# Altium schematic symbol library resistor_pot_trimmer.SchLib: 26 symbols
Pins are listed as number, name and electrical type; pins without a type are passive.

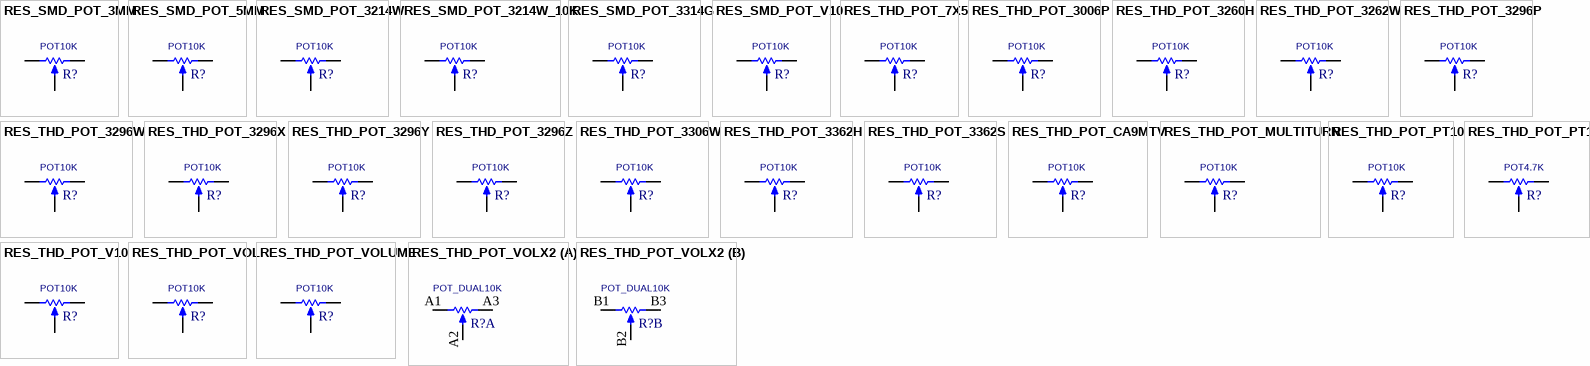
[diagram p0: symbols RES_SMD_POT_3MM to RES_THD_POT_VOLX2]

## RES_SMD_POT_3MM
designator R?, comment POT10K
RESISTOR, SMD, Potentiometer, 3mm; VALUE: POT10K
footprint POTS_3MM (POT SMD, 3.0X3.0mm, Trimming PVG3A PVZ3A)
pins: 1 TOP, 2 TAP, 3 BOT

## RES_SMD_POT_5MM
designator R?, comment POT10K
RESISTOR, SMD, Potentiometer, 5mm; VALUE: POT10K
footprint POTS_5MM (POT SMD, 5.0X5.0mm, Trimming PVG5H)
pins: 1 TOP, 2 TAP, 3 BOT

## RES_SMD_POT_3214W
designator R?, comment POT10K
RESISTOR, SMD, Potentiometer; VALUE: POT10K
footprint POTS_3214W (POT SMD, 4.0X5.0mm, Trimming SM-42/43W 3214W)
pins: 1 TOP, 2 TAP, 3 BOT

## RES_SMD_POT_3214W_10K
designator R?, comment POT10K
RESISTOR, SMD, Potentiometer; MANF: Bourns; MANF_P#: 3214W-1-103G; PRICE: 3$; VALUE: POT10K
footprint POTS_3214W (POT SMD, 4.0X5.0mm, Trimming SM-42/43W 3214W)
pins: 1 TOP, 2 TAP, 3 BOT

## RES_SMD_POT_3314G
designator R?, comment POT10K
RESISTOR, SMD, Potentiometer; VALUE: POT10K
footprint POTS_3314G (POT SMD, 5.0X5.0mm, Trimming, 3314G)
pins: 1 TOP, 2 TAP, 3 BOT

## RES_SMD_POT_V10
designator R?, comment POT10K
RESISTOR, SMD, Potentiometer, 10mm; VALUE: POT10K
footprint POTS_V10MM (POT, TRIM, V-10 10mm SMD)
pins: 1 TOP, 2 TAP, 3 BOT

## RES_THD_POT_7X5
designator R?, comment POT10K
RESISTOR, THD, Potentiometer; VALUE: POT10K
footprint POT_7X5 (POT, TRIM, 7.5X5.0mm, pitch: 5.0mm)
pins: 1 TOP, 2 TAP, 3 BOT

## RES_THD_POT_3006P
designator R?, comment POT10K
RESISTOR, THD, Potentiometer; VALUE: POT10K
footprint POT_3006P (POT, TRIM, 19.0X4.8mm 3006P)
pins: 1 TOP, 2 TAP, 3 BOT

## RES_THD_POT_3260H
designator R?, comment POT10K
RESISTOR, THD, Potentiometer; VALUE: POT10K
footprint POT_3260H (POT, TRIM, 4.3X6.3mm 3260H)
pins: 1 TOP, 2 TAP, 3 BOT

## RES_THD_POT_3262W
designator R?, comment POT10K
RESISTOR, THD, Potentiometer; VALUE: POT10K
footprint POT_3262W (POT, TRIM, 4.3X6.6mm 3262W)
pins: 1 TOP, 2 TAP, 3 BOT

## RES_THD_POT_3296P
designator R?, comment POT10K
RESISTOR, THD, Potentiometer; VALUE: POT10K
footprint POT_3296P (POT, TRIM, 9.5X9.5mm HORIZENTAL 3296P)
pins: 1 TOP, 2 TAP, 3 BOT

## RES_THD_POT_3296W
designator R?, comment POT10K
RESISTOR, THD, Potentiometer; VALUE: POT10K
footprint POT_3296W (POT, TRIM, 10.0X5.0mm, pitch: 2.5mm 3299W 3296W S64W)
pins: 1 TOP, 2 TAP, 3 BOT

## RES_THD_POT_3296X
designator R?, comment POT10K
RESISTOR, THD, Potentiometer; VALUE: POT10K
footprint POT_3296X (POT, TRIM, 10.0X5.0mm, pitch: 2.5mm, MURATA, PV36X 3296X)
pins: 1 TOP, 2 TAP, 3 BOT

## RES_THD_POT_3296Y
designator R?, comment POT10K
RESISTOR, THD, Potentiometer; VALUE: POT10K
footprint POT_3296Y (POT, TRIM, 10.0X5.0mm, pitch: 2.5mm, MURATA, PV36Y 3296Y S64Y)
pins: 1 TOP, 2 TAP, 3 BOT

## RES_THD_POT_3296Z
designator R?, comment POT10K
RESISTOR, THD, Potentiometer; VALUE: POT10K
footprint POT_3296Z (POT, TRIM, 10.0X5.0mm, pitch: 2.5mm, 3296Z)
pins: 1 TOP, 2 TAP, 3 BOT

## RES_THD_POT_3306W
designator R?, comment POT10K
RESISTOR, THD, Potentiometer; VALUE: POT10K
footprint POT_3306W (POT, TRIM, 4.5X6.8mm 3306W)
pins: 1 TOP, 2 TAP, 3 BOT

## RES_THD_POT_3362H
designator R?, comment POT10K
RESISTOR, THD, Potentiometer; VALUE: POT10K
footprint POT_3362H (POT, TRIM, 6.6X6.8mm 3362H, 3362P, 3362R)
pins: 1 TOP, 2 TAP, 3 BOT

## RES_THD_POT_3362S
designator R?, comment POT10K
RESISTOR, THD, Potentiometer; VALUE: POT10K
footprint POT_3362S (POT, TRIM, 4.3X6.6mm 3362S)
pins: 1 TOP, 2 TAP, 3 BOT

## RES_THD_POT_CA9MTV
designator R?, comment POT10K
RESISTOR, THD, Potentiometer; VALUE: POT10K
footprint POT_CA9MTV (POT, TRIM, 10.0X10.0mm, CA9MTV)
pins: 1 TOP, 2 TAP, 3 BOT

## RES_THD_POT_MULTITURN
designator R?, comment POT10K
RESISTOR, THD, Potentiometer Multiturn, most Popular; VALUE: POT10K
footprint POT_3296W (POT, TRIM, 10.0X5.0mm, pitch: 2.5mm 3299W 3296W S64W)
pins: 1 TOP, 2 TAP, 3 BOT

## RES_THD_POT_PT10
designator R?, comment POT10K
RESISTOR, THD, Potentiometer, PT-10 10mm; MANF: PIHER; MANF_P#: PT10LV10K; PARAM2: 150mW; PARAM: 20%, -25~70oC; PRICE: 0.6$; VALUE: POT10K
footprint POT_PIHER10MM (POT, TRIM, PIHER PT-10 10mm)
pins: 1 TOP, 2 TAP, 3 BOT

## RES_THD_POT_PT15
designator R?, comment POT4.7K
RESISTOR, THD, Potentiometer, PT-15 15mm; MANF: PIHER; MANF_P#: PT15NV15; PARAM2: 150mW; PARAM: 20%, -25~70oC; PRICE: 0.6$; VALUE: POT4.7K
footprint POT_PIHER15MM (POT, TRIM, PIHER PT-15 15mm)
pins: 1 TOP, 2 TAP, 3 BOT

## RES_THD_POT_V10
designator R?, comment POT10K
RESISTOR, THD, Potentiometer, V10 10mm; MANF: -; MANF_P#: -; PARAM2: -; PARAM: -; PRICE: 0.6$; VALUE: POT10K
footprint POT_V10MM (POT, TRIM, V-10 10mm)
pins: 1 TOP, 2 TAP, 3 BOT

## RES_THD_POT_VOL
designator R?, comment POT10K
RESISTOR, THD, Potentiometer Volume; VALUE: POT10K
footprint VOL_R (VOULME RIGHT ANGLE)
footprint VOL_9MM (VOULME  9mm Alpha Alps, RV09ACF EVUF)
footprint VOL_14MM (VOULME  14mm, RV141F-40E3)
footprint VOL_3590S (VOULME 3590S)
pins: 1 TOP, 2 TAP, 3 BOT

## RES_THD_POT_VOLUME
designator R?, comment POT10K
RESISTOR, THD, Potentiometer Volume; VALUE: POT10K
footprint VOL_R (VOULME RIGHT ANGLE)
pins: 1 TOP, 2 TAP, 3 BOT

## RES_THD_POT_VOLX2
designator R?, comment POT_DUAL10K
RESISTOR, THD, Potentiometer Volume DUAL; VALUE: POT_DUAL10K
footprint VOL_DUAL (VOULME RIGHT ANGLE DUAL 3RP/1610G)
part A pins: A1 TOP, A2 TAP, A3 BOT
part B pins: B1 TOP, B2 TAP, B3 BOT